# EAGLE library part 805-115/000-006 (library con-wago_805)
Stand: 01.01.2014. Die jeweils aktuellen Daten zu diesem Artikel finden Sie in unserem Produktkatalog, den Sie unter www.wago.com einsehen können. As of: 01/01/2014. Please find the newest data for this article in our product catalogue, which can be viewed under www.wago.com.
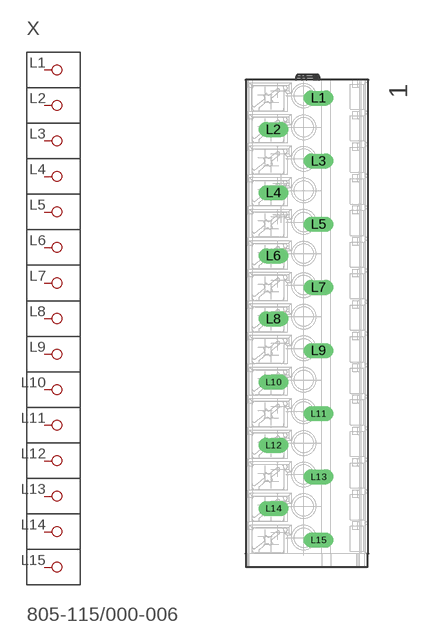
[diagram p47: symbol with the pads of P-805-115; footprint P-805-115]

Designator prefix X

## 805-115/000-006  [P-805-115]
L1  P1
L2  P2
L3  P3
L4  P4
L5  P5
L6  P6
L7  P7
L8  P8
L9  P9
L10  P10
L11  P11
L12  P12
L13  P13
L14  P14
L15  P15

## Footprint P-805-115 (pad centres in mm)
drill 1.1 long: L1 1.3,24.7; L2 -3.7,21.2; L3 1.3,17.7; L4 -3.7,14.2; L5 1.3,10.7; L6 -3.7,7.2; L7 1.3,3.7; L8 -3.7,0.2; L9 1.3,-3.3; L10 -3.7,-6.8; L11 1.3,-10.3; L12 -3.7,-13.8; L13 1.3,-17.3; L14 -3.7,-20.8; L15 1.3,-24.3